# EAGLE library part ATTINY28 (library atmel)
8-bit AVR tiny Microcontroller high-current LED driver Status aktiv aktiv ATtiny28V ATtiny28L General purpose working registers 32 Program flash memory 2 kB 8-bit Timer/Counter 1 AC 1 Watchdog 1 General purpose I/O 11 External interrupts 8 Operating voltage 1.8 ... 5.5 V 2.7 ... 5.5 V Speed grade 0 ... 1.2 MHz 0 ... 4 MHz Clock options calibrated internal 1.2 MHz RC oscillator external crystal oscillator / ceramic resonator external 32.768 kHz low-frequency crystal oscillator external RC oscillator external clock input
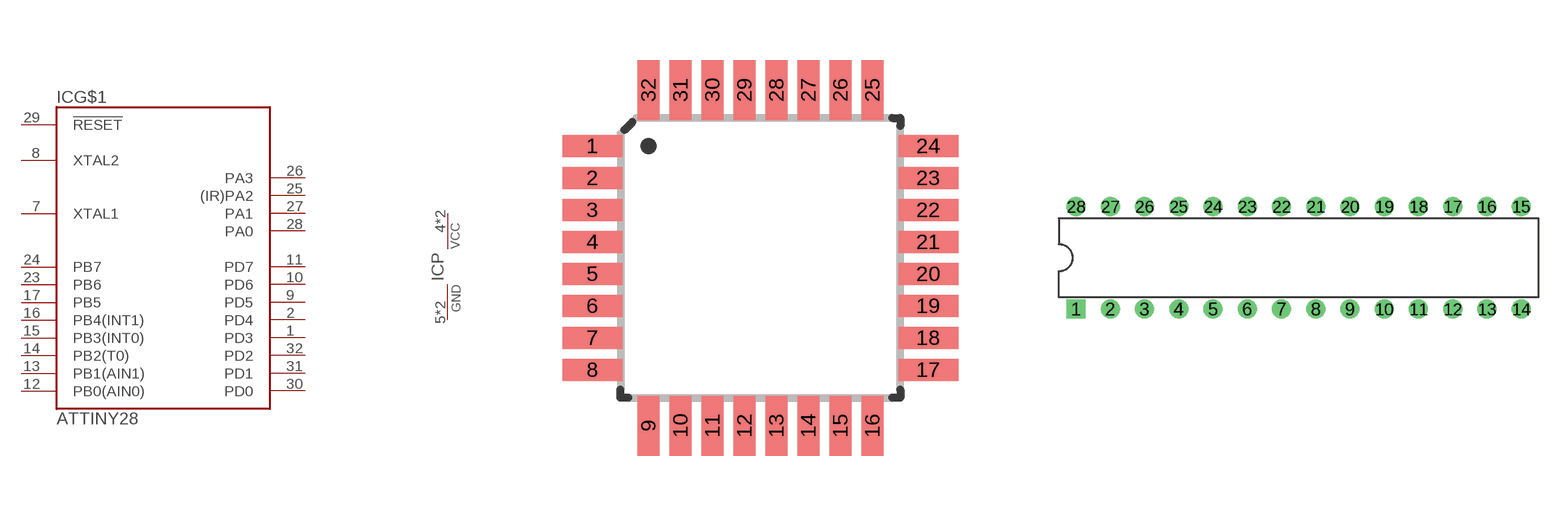
[diagram p75: symbol with the pads of QFP32_7X7_0.80; footprints QFP32_7X7_0.80, DIL28-3]

Designator prefix IC; gates G$1=TINY28 P=PWR

## ATTINY28L-4AC, ATTINY28V-1AC  [QFP32_7X7_0.80]
1  G$1:PD3
2  G$1:PD4
4  P:VCC  pwr
5  P:GND  pwr
7  G$1:XTAL1
8  G$1:XTAL2
9  G$1:PD5
10  G$1:PD6
11  G$1:PD7
12  G$1:PB0(AIN0)  in
13  G$1:PB1(AIN1)  in
14  G$1:PB2(T0)  in
15  G$1:PB3(INT0)  in
16  G$1:PB4(INT1)  in
17  G$1:PB5  in
18  P:VCC  pwr
21  P:GND  pwr
23  G$1:PB6  in
24  G$1:PB7  in
25  G$1:(IR)PA2  out
26  G$1:PA3
27  G$1:PA1
28  G$1:PA0
29  G$1:!RESET  in
30  G$1:PD0
31  G$1:PD1
32  G$1:PD2

## ATTINY28L-4PC, ATTINY28V-1PC  [DIL28-3]
1  G$1:!RESET  in
2  G$1:PD0
3  G$1:PD1
4  G$1:PD2
5  G$1:PD3
6  G$1:PD4
7  P:VCC  pwr
8  P:GND  pwr
9  G$1:XTAL1
10  G$1:XTAL2
11  G$1:PD5
12  G$1:PD6
13  G$1:PD7
14  G$1:PB0(AIN0)  in
15  G$1:PB1(AIN1)  in
16  G$1:PB2(T0)  in
17  G$1:PB3(INT0)  in
18  G$1:PB4(INT1)  in
19  G$1:PB5  in
20  P:VCC  pwr
22  P:GND  pwr
23  G$1:PB6  in
24  G$1:PB7  in
25  G$1:(IR)PA2  out
26  G$1:PA3
27  G$1:PA1
28  G$1:PA0

## ATTINY28L-4MC, ATTINY28V-1MC  [QFN32_5X5_0.50]
Pads as for QFP32_7X7_0.80

## Footprint QFP32_7X7_0.80 (pad centres in mm)
Thin Plasic Quad Flat Package, 7mm x 7mm body, 0.80mm lead pitch JEDEC: MS-026 ABA ATMEL Code: 32A
smd 1.5 x 0.55: 1 -4.2,2.8; 2 -4.2,2; 3 -4.2,1.2; 4 -4.2,0.4; 5 -4.2,-0.4; 6 -4.2,-1.2; 7 -4.2,-2; 8 -4.2,-2.8; 17 4.2,-2.8; 18 4.2,-2; 19 4.2,-1.2; 20 4.2,-0.4; 21 4.2,0.4; 22 4.2,1.2; 23 4.2,2; 24 4.2,2.8
smd 0.55 x 1.5: 9 -2.8,-4.2; 10 -2,-4.2; 11 -1.2,-4.2; 12 -0.4,-4.2; 13 0.4,-4.2; 14 1.2,-4.2; 15 2,-4.2; 16 2.8,-4.2; 25 2.8,4.2; 26 2,4.2; 27 1.2,4.2; 28 0.4,4.2; 29 -0.4,4.2; 30 -1.2,4.2; 31 -2,4.2; 32 -2.8,4.2

## Footprint DIL28-3 (pad centres in mm)
DIL package, pin row distance 300mil
drill 0.8 pad 1.4 square: 1 -16.51,-3.81
drill 0.8 pad 1.4: 2 -13.97,-3.81; 3 -11.43,-3.81; 4 -8.89,-3.81; 5 -6.35,-3.81; 6 -3.81,-3.81; 7 -1.27,-3.81; 8 1.27,-3.81; 9 3.81,-3.81; 10 6.35,-3.81; 11 8.89,-3.81; 12 11.43,-3.81; 13 13.97,-3.81; 14 16.51,-3.81; 15 16.51,3.81; 16 13.97,3.81; 17 11.43,3.81; 18 8.89,3.81; 19 6.35,3.81; 20 3.81,3.81; 21 1.27,3.81; 22 -1.27,3.81; 23 -3.81,3.81; 24 -6.35,3.81; 25 -8.89,3.81; 26 -11.43,3.81; 27 -13.97,3.81; 28 -16.51,3.81

## Footprint QFN32_5X5_0.50 (pad centres in mm)
32-Lead Plastic QFN, 5mm x 5mm body, 0.5mm lead pitch, exposed pad ATMEL Code: 32M1-A Micro Lead Frame package (MLF) NXP Code: SOT617
smd 0.8 x 0.3: 1 -2.5,1.75; 2 -2.5,1.25; 3 -2.5,0.75; 4 -2.5,0.25; 5 -2.5,-0.25; 6 -2.5,-0.75; 7 -2.5,-1.25; 8 -2.5,-1.75; 17 2.5,-1.75; 18 2.5,-1.25; 19 2.5,-0.75; 20 2.5,-0.25; 21 2.5,0.25; 22 2.5,0.75; 23 2.5,1.25; 24 2.5,1.75
smd 0.3 x 0.8: 9 -1.75,-2.5; 10 -1.25,-2.5; 11 -0.75,-2.5; 12 -0.25,-2.5; 13 0.25,-2.5; 14 0.75,-2.5; 15 1.25,-2.5; 16 1.75,-2.5; 25 1.75,2.5; 26 1.25,2.5; 27 0.75,2.5; 28 0.25,2.5; 29 -0.25,2.5; 30 -0.75,2.5; 31 -1.25,2.5; 32 -1.75,2.5
smd 3.7 x 3.7: EXP 0,0